# Altium schematic symbol library OpenBMS_schlib.SchLib: 31 symbols
Pins are listed as number, name and electrical type; pins without a type are passive.

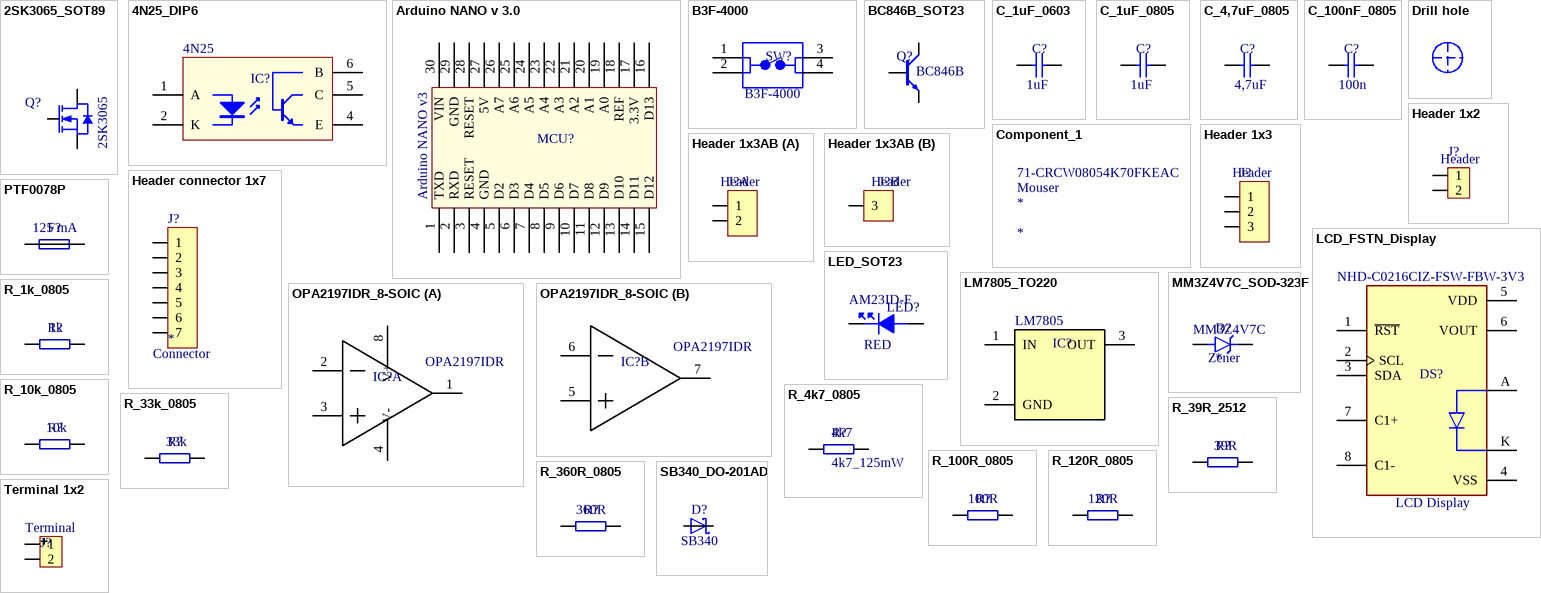
[diagram p0: symbols 2SK3065_SOT89 to Terminal 1x2]

## 2SK3065_SOT89
designator Q?  Name: 2SK3065  (hidden comment: *)
N Channel MOSFET [SMD]; Manufacturer_Part_Number: 2SK3065T100; Manufacturer: Rohm; Vendor: ROHM Semiconductor; Built_By: EMA_Matt; SourceLibrary: Rohm_2019-09-23; Type: DEV; Continuous Drain Current (ID): 2A; Drain to Source Breakdown Voltage: 60V; Drain to Source Resistance: 350mR; Element Configuration: Single; Fall Time: 70ns; Gate to Source Voltage (Vgs): 20V; Input Capacitance: 160pF; Max Power Dissipation: 500mW; Nominal Vgs: 800mV; On-State Resistance: 450mR; Power Dissipation: 2W; Rds On Max: 320mR; Rise Time: 50ns; Turn-Off Delay Time: 120ns; Turn-On Delay Time: 20ns; Copyright: Copyright (C) 2018 Accelerated Designs. All rights reserved; RefDes: RefDes; Value: Value; ComponentLink1Description: DATASHEET; ComponentLink1URL: https://hr.mouser.com/datasheet/2/348/rohm_semiconductor_rohms30086-1-1742632.pdf; ComponentLink2Description: BUY; ComponentLink2URL: https://hr.mouser.com/ProductDetail/ROHM-Semiconductor/2SK3065T100?qs=4kLU8WoGk0uDb4MT5MWZbg%3D%3D; Supplier 1: Mouser; Supplier Part Number 1: 755-2SK3065T100; Case/Package: SOT-89; Current Rating: 2A; Drain to Source Voltage (Vdss): 60V; Lead Free: Lead Free; Max Operating Temperature: 150°C; Min Operating Temperature: -55°C; Mount: Surface Mount; Number of Pins: 3; Package Quantity: 1000; Packaging: Tape and Reel; Radiation Hardening: No; REACH SVHC: No SVHC; RoHS Compliant: Yes; Threshold Voltage: 800mV; Voltage Rating (DC): 60V; Supplier Packaging 1: Tape & Reel; Supplier Unit Price 1: $0.68; Supplier Location 1: US; Manufacturer Part Number: 2SK3065T100
footprint N_MOSFET
pins: 1 G, 2 D, 3 S

## 4N25_DIP6
designator IC?  Manufacturer Part Number: 4N25  (hidden comment: *)
Optocoupler [TH]; Manufacturer: Vishay Semiconductors; Max Power Dissipation: 150mW; Number of Elements: 1; Collector Emitter Voltage (VCEO): 30V; Rise Time: 2s; Isolation Voltage: 5kV; Forward Voltage: 1.5V; Forward Current: 60mA; Collector Emitter Saturation Voltage: 500mV; Reverse Breakdown Voltage: 5V; Output Voltage: 70V; Output Current per Channel: 50mA; Max Collector Current: 100mA; Current Transfer Ratio: 50%; Approvals: UL; RoHS: Yes; Mount: Through Hole; Case/Package: DIP-6; Number of Pins: 6; Contact Plating: Tin; Min Operating Temperature: -55°C; Max Operating Temperature: 100°C; Packaging: Rail/Tube; Package Quantity: 2000; Power Dissipation: 150mW; Number of Channels: 1; Max Input Current: 60mA; Max Output Voltage: 30V; Fall Time: 2s; Input Current: 50mA; Collector Emitter Breakdown Voltage: 30V; Radiation Hardening: No; Lead Free: Lead Free; REACH SVHC: Unknown; ComponentLink1Description: DATASHEET; ComponentLink1URL: https://hr.mouser.com/datasheet/2/427/VISHS81804_1-2566401.pdf; ComponentLink3Description: BUY; ComponentLink3URL: https://hr.mouser.com/ProductDetail/Vishay-Semiconductors/4N25?qs=8Ee2Dc0%2F0IdkAlKrFkNMCA%3D%3D; Supplier 1: Mouser; Supplier Part Number 1: 78-4N25
footprint DIP6
pins: 1 A, 2 K, 4 E, 5 C, 6 B

## Arduino NANO v 3.0
designator MCU?  Name: Arduino NANO v3  (hidden comment: *)
Microcontroller [TH]; Manufacturer Part Number: A000005; Manufacturer: Arduino; Core Architecture: AVR; Data Bus Width: 8b; Evaluation Kit: Yes; Number of Bits: 8; Operating Supply Voltage: 20V; Interface: I2C,SPI,USB; ComponentLink1Description: OFFICIAL PAGE; ComponentLink1URL: https://store.arduino.cc/arduino-nano; Height: 0.25inch; Length: 7inch; Package Quantity: 1; Packaging: Bulk; REACH SVHC: No SVHC; Weight: 0.02lb; Width: 5inch; ComponentLink2Description: BUY; ComponentLink2URL: https://www.mouser.com/ProductDetail/Arduino/A000005?qs=FN83AlR%252Bkj%252B2HN65G4WOuA%3D%3D; Supplier 1: Mouser; Supplier Part Number 1: 782-A000005
footprint Arduino_Nano_V3.0
pins: 1 TXD, 2 RXD, 3 RESET, 4 GND, 5 D2, 6 D3, 7 D4, 8 D5, 9 D6, 10 D7, 11 D8, 12 D9, 13 D10, 14 D11, 15 D12, 16 D13, 17 3.3V, 18 REF, 19 A0, 20 A1, 21 A2, 22 A3, 23 A4, 24 A5, 25 A6, 26 A7, 27 5V, 28 RESET, 29 GND, 30 VIN

## B3F-4000
designator SW?  Name: B3F-4000  (hidden comment: *)
SPST Push button [TH]; Manufacturer: Omron; MF: TE Connectivity; MP: 3-1825910-1; Actuator Color: Blue; Actuator Length: 0.8mm; Actuator Type: Standard; Contact Current Rating: 50mA; Contact Resistance: 100mR; Electrical Life: 3000000Cycles; Illumination Type: Non-Illuminated,Illuminated; Max Voltage Rating (DC): 24V; Number of Poles: 1; Operating Force: 1.27N; Switch Function: Off-Mom; Switch Travel: 0.3mm; Availability: Unavailable; SnapEDA_Link: https://www.snapeda.com/parts/3-1825910-1/TE%20Connectivity%20ALCOSWITCH%20Switches/view-part/452461/?ref=snap; Price: None; EU_RoHS_Compliance: Compliant; Package: None; TE_purchase_URL: https://www.te.com/usa-en/product-3-1825910-1.html?te_bu=Cor&te_type=disp&te_campaign=seda_glo_cor-seda-global-disp-prtnr-fy19-seda-model-bom-cta_sma-317_1&elqCampaignId=32493; Value: *; ComponentLink1Description: DATASHEET; ComponentLink1URL: https://hr.mouser.com/datasheet/2/307/en-b3f-13826.pdf; ComponentLink2Description: BUY; ComponentLink2URL: https://hr.mouser.com/ProductDetail/Omron-Electronics/B3F-4000?qs=sGAEpiMZZMv0NwlthflBi3MjD%252BFGR0mw; Supplier 1: Mouser; Supplier Part Number 1: 653-B3F-4000; Contact Material: Gold,Silver; Contact Plating: Silver,Gold; Contact Type: 1 maker; Current Rating: 50mA; Depth: 12mm; Height: 4.3mm; Insulation Resistance: 100MR; Lead Free: Lead Free; Length: 12mm; Max Current Rating: 50mA; Max Operating Temperature: 70°C; Mechanical Life: 3000000Cycles; Min Operating Temperature: -25°C; Mount: Through Hole,PCB; Orientation: Straight; Package Quantity: 500; Packaging: Bulk; REACH SVHC: Unknown; RoHS Compliant: Yes; Series: B3F; Termination: PC Pins; Throw Configuration: SPST; Voltage Rating (DC): 24V; Weight: 0.85g; Width: 12mm; Supplier Packaging 1: Bulk; Supplier Unit Price 1: $0.54; Supplier Location 1: US; Manufacturer Part Number: B3F-4000
footprint PUSH_BUTTON
pins: 1, 2, 3, 4

## BC846B_SOT23
designator Q?  Name: BC846B  (hidden comment: *)
NPN transistor [SMD]; Manufacturer Part Number: BC846ALT1G; Manufacturer: ON Semiconductor; Collector Base Voltage (VCBO): 80V; Collector Emitter Breakdown Voltage: 65V; Collector Emitter Saturation Voltage: 600mV; Current Rating: 100mA; Element Configuration: Single; Emitter Base Voltage (VEBO): 6V; Frequency: 100MHz; hFE Min: 110; Max Power Dissipation: 300mW; Number of Elements: 1; ComponentLink1Description: DATASHEET; ComponentLink1URL: https://hr.mouser.com/datasheet/2/308/1/BC846ALT1_D-2310268.pdf; ComponentLink2Description: BUY; ComponentLink2URL: https://hr.mouser.com/ProductDetail/onsemi/BC846ALT1G?qs=vNc2DXHODiKaYXYnVvJi5w%3D%3D; Case/Package: SOT-23; Collector Emitter Voltage (VCEO): 65V; Collector-emitter Voltage-Max: 600mV; Contact Plating: Tin,Matte; Gain Bandwidth Product: 100MHz; Halogen Free: Halogen Free; Height: 0.94mm; Lead Free: Lead Free; Length: 2.9mm; Max Breakdown Voltage: 65V; Max Collector Current: 100mA; Max Frequency: 100MHz; Max Operating Temperature: 150°C; Min Operating Temperature: -55°C; Number of Pins: 3; Package Quantity: 1; Packaging: Tape and Reel; Polarity: NPN; Power Dissipation: 300mW; Radiation Hardening: No; REACH SVHC: No SVHC; RoHS Compliant: Yes; Series: BC846AL; Transition Frequency: 100MHz; Voltage Rating (DC): 65V; Width: 1.3mm; Supplier 1: Mouser; Supplier Part Number 1: 863-BC846ALT1G
footprint NPN_BJT_SOT23
pins: 1 C, 2 B, 3 E

## C_1uF_0603
designator C?, comment Name: 1uF  (hidden comment: 1uF_35V)
Capacitor [SMD]; Manufacturer: Murata; Manufacturer Part Number: GRT188R61H105KE13D; Dielectric: X5R; Tolerance: 10%; Voltage Rating: 50V; ComponentLink1Description: DATASHEET; ComponentLink1URL: https://hr.mouser.com/datasheet/2/281/1/GRT188R61H105KE13_01-1989463.pdf; ComponentLink2Description: BUY; ComponentLink2URL: https://hr.mouser.com/ProductDetail/Murata-Electronics/GRT188R61H105KE13D?qs=drgMNd%252BkGPNIxxtJByMGCg%3D%3D; Capacitance: 1uF; Case Code (Imperial): 0603; Case Code (Metric): 1608; Case/Package: 0603; Length: 0.063inch; Max Operating Temperature: 85°C; Min Operating Temperature: -55°C; Mount: Surface Mount; Packaging: Tape and Reel; Ratings: AEC-Q200; RoHS Compliant: Yes; Thickness: 0.035inch; Voltage Rating (DC): 50V; Width: 0.031inch; Supplier 1: Mouser; Supplier Part Number 1: 81-GRT188R61H105KE3D
footprint C_0603
pins: 1, 2

## C_1uF_0805
designator C?, comment Name: 1uF  (hidden comment: 1uF_35V)
Capacitor [SMD]; Manufacturer: Murata; Manufacturer Part Number: GCJ21BR71H105KA01L; Dielectric: X7R; Tolerance: 10%; Voltage Rating: 50V; ComponentLink1Description: DATASHEET; ComponentLink1URL: https://hr.mouser.com/datasheet/2/281/GCJ21BR71H105KA01_01-1963894.pdf; ComponentLink2Description: BUY; ComponentLink2URL: https://hr.mouser.com/ProductDetail/Murata-Electronics/GCJ21BR71H105KA01L?qs=hNud%2FORuBR3CJcLH9kX5%252Bw%3D%3D; Supplier 1: Mouser; Supplier Part Number 1: 81-GCJ21BR71H105KA1L; Capacitance: 1uF; Case Code (Imperial): 0805; Case Code (Metric): 2012; Case/Package: 0805; Features: Soft Termination; Height: 1.25mm; Lead Free: Lead Free; Length: 0.079inch; Max Operating Temperature: 125°C; Min Operating Temperature: -55°C; Mount: Surface Mount; Package Quantity: 3000; Packaging: Tape and Reel; Ratings: AEC-Q200; RoHS Compliant: Yes; Termination: SMD/SMT; Thickness: 0.057inch; Voltage Rating (DC): 50V; Weight: 0.000335oz; Width: 0.049inch; Supplier Packaging 1: Tape & Reel; Supplier Unit Price 1: $0.32; Supplier Location 1: US
footprint C_0805
pins: 1, 2

## C_4,7uF_0805
designator C?, comment Name: 4,7uF  (hidden comment: 4,7uF_35V)
Capacitor [SMD]; Manufacturer: Murata; Manufacturer Part Number: GRM21BR61H475KE51L; Capacitance: 4.7uF; Dielectric: X5R; Material: Ceramic; Tolerance: 10%; Voltage Rating: 50V; ComponentLink1Description: DATASHEET; ComponentLink1URL: https://hr.mouser.com/datasheet/2/281/1/GRM21BR61H475KE51_01A-1987025.pdf; ComponentLink2Description: BUY; ComponentLink2URL: https://hr.mouser.com/ProductDetail/Murata-Electronics/GRM21BR61H475KE51L?qs=eeBpzGFlv%252B%252BOtLzDC1PY6Q%3D%3D; Supplier 1: Mouser; Supplier Part Number 1: 81-GRM21BR61H475KE1L; Case Code (Imperial): 0805; Case Code (Metric): 2012; Case/Package: 0805; Depth: 1.25mm; Height: 1.25mm; Lead Free: Lead Free; Length: 2mm; Max Operating Temperature: 85°C; Min Operating Temperature: -55°C; Mount: Surface Mount; Packaging: Tape and Reel; REACH SVHC: No SVHC; RoHS Compliant: Yes; Thickness: 0.055inch; Voltage Rating (DC): 50V; Width: 0.049inch; Supplier Packaging 1: Tape & Reel; Supplier Unit Price 1: $0.35; Supplier Location 1: US
footprint C_0805
pins: 1, 2

## C_100nF_0805
designator C?, comment Name: 100n  (hidden comment: 100nF_35V)
Capacitor [SMD]; Manufacturer: Murata; Manufacturer Part Number: GCJ21BL81H104KA01L; Capacitance: 100nF; Tolerance: 10%; Voltage Rating: 50V; ComponentLink1Description: DATASHEET; ComponentLink1URL: https://hr.mouser.com/datasheet/2/281/GCJ21BL81H104KA01_01-1963909.pdf; ComponentLink2Description: BUY; ComponentLink2URL: https://hr.mouser.com/ProductDetail/Murata-Electronics/GCJ21BL81H104KA01L?qs=QzBtWTOodeX5ICEuC%252Bh33g%3D%3D; Supplier 1: Mouser; Supplier Part Number 1: 81-GCJ21BL81H104KA1L; Case Code (Imperial): 0805; Case Code (Metric): 2012; Case/Package: 0805; Features: Soft Termination; Max Operating Temperature: 150°C; Min Operating Temperature: -55°C; Mount: Surface Mount; Packaging: Tape and Reel; Ratings: AEC-Q200; RoHS Compliant: Yes; Supplier Packaging 1: Tape & Reel; Supplier Unit Price 1: $0.30; Supplier Location 1: US
footprint C_0805
pins: 1, 2

## Component_1
designator *  Supplier 1: Mouser  Supplier Part Number 1: 71-CRCW08054K70FKEAC

## Drill hole
designator H?  (value not drawn)  (no BOM)
Mounting Hole d = 3.2mm; Circumference diameter: 4.4 mm; Circumference line width: 0.5 mm; Hole diameter: 3.2 mm
footprint Mount_Hole (Mounting Hole M2)

## Header 1x2
designator J?, comment Name: Header  (hidden comment: 2.54mm pitch)
Header, 2-Pin [TH]; Manufacturer: Molex; Current Rating: 4A; Gender: Male; Glow Wire Compliant: Non-compliant; Number of Circuits: 15; Pitch: 0.1inch; Voltage Rating: 250V; Connector Type: Male Pin; LatestRevisionDate: 17-Jul-2002; LatestRevisionNote: Re-released for DXP Platform.; Publisher: Altium Limited; ComponentLink1Description: DATASHEET; ComponentLink1URL: https://hr.mouser.com/datasheet/2/276/0022284150_PCB_HEADERS-159054.pdf; ComponentLink2Description: BUY; ComponentLink2URL: https://hr.mouser.com/ProductDetail/Molex/22-28-4150?qs=M5Ic86%252BuP8aClMFgmZrq7g%3D%3D; Supplier 1: Mouser; Supplier Part Number 1: 538-22-28-4150; Color: Black; Contact Material: Brass; Contact Mating Length: 0.24inch; Contact Plating: Tin; Contact Type: Male Pin; Flammability Rating: UL94 V-0; Height: 2.29mm; Housing Color: Black; Housing Material: Thermoplastic; Lead Free: Contains Lead; Length: 38.1mm; Mount: Through Hole; Number of Contacts: 15; Number of Positions: 15; Number of Rows: 1; Orientation: Vertical; Package Quantity: 1; Packaging: Bulk; RoHS Compliant: Yes; Series: KK® 42375; Termination: Solder; Voltage Rating (DC): 250V; Width: 2.49mm; Supplier Packaging 1: Bulk; Supplier Unit Price 1: $0.57; Supplier Location 1: US; Manufacturer Part Number: 22-28-4150
footprint HDR_1x2_2.54mm-MALE
pins: 1, 2

## Header 1x3
designator J?, comment Name: Header  (hidden comment: 2.54mm pitch)
Header, 3-Pin [TH]; Manufacturer: Molex; Connector Type: Male Pin; Current Rating: 4A; Gender: Male; Glow Wire Compliant: Non-compliant; Number of Circuits: 15; Pitch: 0.1inch; Voltage Rating: 250V; LatestRevisionDate: 17-Jul-2002; LatestRevisionNote: Re-released for DXP Platform.; Publisher: Altium Limited; ComponentLink1Description: DATASHEET; ComponentLink1URL: https://hr.mouser.com/datasheet/2/276/0022284150_PCB_HEADERS-159054.pdf; ComponentLink2Description: BUY; ComponentLink2URL: https://hr.mouser.com/ProductDetail/Molex/22-28-4150?qs=M5Ic86%252BuP8aClMFgmZrq7g%3D%3D; Supplier 1: Mouser; Supplier Part Number 1: 538-22-28-4150; Color: Black; Contact Material: Brass; Contact Mating Length: 0.24inch; Contact Plating: Tin; Contact Type: Male Pin; Flammability Rating: UL94 V-0; Height: 2.29mm; Housing Color: Black; Housing Material: Thermoplastic; Lead Free: Contains Lead; Length: 38.1mm; Mount: Through Hole; Number of Contacts: 15; Number of Positions: 15; Number of Rows: 1; Orientation: Vertical; Package Quantity: 1; Packaging: Bulk; RoHS Compliant: Yes; Series: KK® 42375; Termination: Solder; Voltage Rating (DC): 250V; Width: 2.49mm; Supplier Packaging 1: Bulk; Supplier Unit Price 1: $0.57; Supplier Location 1: US; Manufacturer Part Number: 22-28-4150
footprint HDR_1X3_2.54mm-MALE (Connector; Header; 3 Position)
pins: 1, 2, 3

## Header 1x3AB
designator J?, comment Name: Header  (hidden comment: 2.54mm pitch)
Header, 3-Pin [TH]; Manufacturer: Molex; Connector Type: Male Pin; Current Rating: 4A; Gender: Male; Glow Wire Compliant: Non-compliant; Number of Circuits: 15; Pitch: 0.1inch; Voltage Rating: 250V; LatestRevisionDate: 17-Jul-2002; LatestRevisionNote: Re-released for DXP Platform.; Publisher: Altium Limited; ComponentLink1Description: DATASHEET; ComponentLink1URL: https://hr.mouser.com/datasheet/2/276/0022284150_PCB_HEADERS-159054.pdf; ComponentLink2Description: BUY; ComponentLink2URL: https://hr.mouser.com/ProductDetail/Molex/22-28-4150?qs=M5Ic86%252BuP8aClMFgmZrq7g%3D%3D; Supplier 1: Mouser; Supplier Part Number 1: 538-22-28-4150; Color: Black; Contact Material: Brass; Contact Mating Length: 0.24inch; Contact Plating: Tin; Contact Type: Male Pin; Flammability Rating: UL94 V-0; Height: 2.29mm; Housing Color: Black; Housing Material: Thermoplastic; Lead Free: Contains Lead; Length: 38.1mm; Mount: Through Hole; Number of Contacts: 15; Number of Positions: 15; Number of Rows: 1; Orientation: Vertical; Package Quantity: 1; Packaging: Bulk; RoHS Compliant: Yes; Series: KK® 42375; Termination: Solder; Voltage Rating (DC): 250V; Width: 2.49mm; Supplier Packaging 1: Bulk; Supplier Unit Price 1: $0.57; Supplier Location 1: US; Manufacturer Part Number: 22-28-4150
footprint HDR_1X3_2.54mm-MALE (Connector; Header; 3 Position)
part A pins: 1, 2
part B pins: 3

## Header connector 1x7
designator J?  Name: Connector
Header, 7-Pin [TH]; Manufacturer: Molex; Manufacturer Part Number: 70543-0006; Contact Resistance: 30mR; Current Rating: 3A; Gender: Male; Glow Wire Compliant: Non-compliant; Number of Circuits: 7; Pitch: 2.54mm; Voltage Rating: 250V; LatestRevisionDate: 17-Jul-2002; LatestRevisionNote: Re-released for DXP Platform.; Publisher: Altium Limited; ComponentLink1Description: Male_DATASHEET; ComponentLink1URL: https://hr.mouser.com/datasheet/2/276/1/0705430006_PCB_HEADERS-172671.pdf; ComponentLink2Description: Male_BUY; ComponentLink2URL: https://hr.mouser.com/ProductDetail/Molex/70543-0006?qs=tYx%252BZc2nXqqLGOznLgFBUw%3D%3D; ComponentLink3Description: Female_DATASHEET; ComponentLink3URL: https://hr.mouser.com/datasheet/2/276/0014600072_RB_CBL_WR_TRP_CONN-157136.pdf; ComponentLink4Description: Female_BUY; ComponentLink4URL: https://hr.mouser.com/ProductDetail/Molex/14-60-0072?qs=NB3s7TNnM%252BbcvQdqxWlaYA%3D%3D; Supplier 1: Mouser; Supplier Part Number 1: 538-70543-0006; Color: Black; Contact Material: Bronze,Copper Alloy; Contact Plating: Gold; ELV: Compliant; Flammability Rating: UL94 V-0; Housing Color: Black; Housing Material: Thermoplastic; Lead Free: Lead Free; Material: Brass; Max Operating Temperature: 105°C; Min Operating Temperature: -40°C; Mount: Through Hole; Number of Contacts: 7; Number of Positions: 7; Number of Rows: 1; Orientation: Vertical; Package Quantity: 1248; Packaging: Rail/Tube; Radiation Hardening: No; REACH SVHC: Unknown; RoHS Compliant: Yes; Series: 70543; Termination: Through Hole; Supplier Packaging 1: Tube; Supplier Unit Price 1: $1.68; Supplier Location 1: US
footprint HDR_1x7_2.54mm-MALE
pins: 1, 2, 3, 4, 5, 6, 7

## LCD_FSTN_Display
designator DS?  MP: NHD-C0216CIZ-FSW-FBW-3V3  Name: LCD Display  (hidden comment: *)
NHD-C0216CIZ-FSW-FBW-3V3 / LCD Display; Manufacturer: Newhaven Display; MF: Newhaven; Background Color: White; Backlight Type: LED; Contrast Ratio: 6:1; Interface: I2C; Number of Characters: 32; Operating Supply Voltage: 3V; SnapEDA_Link: https://www.snapeda.com/parts/NHD-C0216CIZ-FSW-FBW-3V3/Newhaven%20Display%20Intl/view-part/1660867/?ref=snap; Value: *; Digi-Key_Part_Number: NHD-C0216CIZ-FSW-FBW-3V3-ND; Digi-Key_Purchase_URL: https://www.digikey.com/product-detail/en/newhaven-display-intl/NHD-C0216CIZ-FSW-FBW-3V3/NHD-C0216CIZ-FSW-FBW-3V3-ND/2165872?utm_source=snapeda&utm_medium=aggregator&utm_campaign=symbol; Package: None; ComponentLink1Description: DATASHEET; ComponentLink1URL: https://hr.mouser.com/datasheet/2/291/NHD_C0216CiZ_FSW_FBW_3V3-2904729.pdf; ComponentLink2Description: BUY; ComponentLink2URL: https://hr.mouser.com/ProductDetail/Newhaven-Display/NHD-C0216CiZ-FSW-FBW-3V3?qs=Vb5qD4CGh4kMzks2c1g3mA%3D%3D; Supplier 1: Mouser; Supplier Part Number 1: 763-C0216CIZFSWFBW3V; Max Operating Temperature: 70°C; Min Operating Temperature: -20°C; Mount: Through Hole; Number of Pins: 8; Package Quantity: 100; Packaging: Bulk; Supplier Packaging 1: Bulk; Supplier Unit Price 1: $16.00; Supplier Location 1: US; Manufacturer Part Number: NHD-C0216CIZ-FSW-FBW-3V3
footprint LCD_NHD-C0216CIZ-FSW-FBW-3V3
pins: 1 ~{RST}, 2 SCL, 3 SDA, 4 VSS (power), 5 VDD (power), 6 VOUT, 7 C1+, 8 C1-, A, K

## LED_SOT23
designator LED?  Manufacturer Part Number: AM23ID-F  Name: RED  (hidden comment: *)
Red LED [SMD]; Manufacturer: Kingbright; Dominant Wavelength: 617nm; Forward Current: 20mA; Forward Voltage: 2V; Lens Style: Diffused,Tinted; Lens Transparency: Diffused; Luminous Intensity: 7mcd; Power Rating: 75mW; Viewing Angle: 140°; Wavelength: 625nm; ComponentLink1Description: DATASHEET; ComponentLink1URL: https://hr.mouser.com/datasheet/2/216/AM23ID-F-33364.pdf; ComponentLink2Description: BUY; ComponentLink2URL: https://hr.mouser.com/ProductDetail/Kingbright/AM23ID-F?qs=y3UkhjaxUTbVf8YFp%2FiekA%3D%3D; Supplier 1: Mouser; Supplier Part Number 1: 604-AM23ID-F; Case/Package: SOT-23; Color: Red; Height: 1.2mm; Illumination Color: Red; Lead Free: Lead Free; Length: 3mm; Lens Color: Red; Max Operating Temperature: 85°C; Min Operating Temperature: -40°C; Mount: Surface Mount; Package Quantity: 2000; Packaging: Tape and Reel; RoHS Compliant: Yes; Series: -; Test Current: 20mA; Width: 1.3mm; Supplier Packaging 1: Tape & Reel; Supplier Unit Price 1: $0.50; Supplier Location 1: US
footprint LED_SOT23
pins: 1 A, 3 K

## LM7805_TO220
designator IC?  Name: LM7805  (hidden comment: *)
Linear Voltage Regulator 5V [TH] with thermal pad mounted to Fischer elektronik SK09 - 20mm heatsink with a screw and nut; Manufacturer: STMicroelectronics; Manufacturer Part Number: L7805C-V; MP: LM7805CT; MF: ON Semiconductor; Dropout Voltage: 2V; Max Input Voltage: 35V; Max Output Current: 1.5A; Min Input Voltage: 7V; Number of Outputs: 1; Output Configuration: Positive; Output Type: Fixed; Power Supply Rejection Ratio (PSRR): 62dB; Quiescent Current: 8mA; Tolerance: 5%; SnapEDA_Link: https://www.snapeda.com/parts/LM7805CT/ON%20Semiconductor/view-part/546231/?ref=snap; Price: None; Package: TO-220 ON Semiconductor; Value: *; Availability: Unavailable; ComponentLink1Description: Rregulator_DATASHEET; ComponentLink1URL: https://hr.mouser.com/datasheet/2/389/cd00000444-1795274.pdf; ComponentLink2Description: Regulator_BUY; ComponentLink2URL: https://hr.mouser.com/ProductDetail/STMicroelectronics/L7805CV?qs=9NrABl3fj%2FqplZAHiYUxWg%3D%3D; Supplier 1: Mouser; Supplier Part Number 1: 511-L7805CV; Case/Package: TO-220; Contact Plating: Gold; Height: 9.15mm; Lead Free: Lead Free; Length: 10.4mm; Max Operating Temperature: 125°C; Min Operating Temperature: 0°C; Min Output Voltage: 5V; Mount: Through Hole; Nominal Output Voltage: 5V; Number of Pins: 3; Number of Regulators: 1; Output Current: 1.5A; Output Voltage: 5V; Package Quantity: 1000; Packaging: Rail/Tube; Polarity: Positive; Radiation Hardening: No; REACH SVHC: No SVHC; RoHS Compliant: Yes; Series: -; Weight: 0.08113oz; Width: 4.6mm; Supplier Packaging 1: Tube; Supplier Unit Price 1: $0.63; Supplier Location 1: US; ComponentLink3Description: Heatsink_OFFICIAL PAGE; ComponentLink3URL: https://www.fischerelektronik.de/web_fischer/en_GB/heatsinks/A01/Standard%20extruded%20heatsinks/PG/SK09/search.xhtml; ComponentLink4Description: Heatsink_BUY; ComponentLink4URL: https://www.tme.eu/en/details/sk09-20sa220/heatsinks/fischer-elektronik/sk-09-20-sa-to-220/
footprint TO220
pins: 1 IN (power), 2 GND (power), 3 OUT (power)

## MM3Z4V7C_SOD-323F
designator D?  value MM3Z4V7C  Type: Zener
Zener Single Diode, 4.7 V, 200 mW [SMD]; Manufacturer: ON Semiconductor / Fairchild; MP: 1N4148WS; MF: ON Semiconductor; Forward Voltage: 1V; Impedance: 75R; Max Power Dissipation: 200mW; Max Reverse Current: 2.7uA; Test Current: 5mA; Tolerance: 5%; Working Voltage: 4.7V; Price: None; SnapEDA_Link: https://www.snapeda.com/parts/1N4148WS/ON%20Semiconductor/view-part/2747266/?ref=snap; Check_prices: https://www.snapeda.com/parts/1N4148WS/ON%20Semiconductor/view-part/2747266/?ref=eda; Availability: Good; Purchase-URL: https://pricing.snapeda.com/search/part/1N4148WS/?ref=eda; Package: SOD-323FL-2 ON Semiconductor; ComponentLink1Description: DATASHEET; ComponentLink1URL: https://hr.mouser.com/datasheet/2/308/1/MM3Z9V1C_D-2315854.pdf; ComponentLink2Description: BUY; ComponentLink2URL: https://hr.mouser.com/ProductDetail/onsemi-Fairchild/MM3Z4V7C?qs=sGAEpiMZZMtdo5lL%2F%252BX2BwKAOpX0rFyD; Supplier 1: Mouser; Supplier Part Number 1: 512-MM3Z4V7C; Element Configuration: Single; Height: 1mm; Lead Free: Lead Free; Length: 1.3mm; Max Operating Temperature: 150°C; Max Reverse Leakage Current: 2.7uA; Min Operating Temperature: -65°C; Mount: Surface Mount; Number of Pins: 2; Package Quantity: 1; Packaging: Tape and Reel; Power Dissipation: 200mW; Radiation Hardening: No; RoHS Compliant: Yes; Voltage Tolerance: 5%; Weight: 0.0276g; Width: 1.7mm; Zener Voltage: 4.7V; Supplier Packaging 1: Tape & Reel; Supplier Unit Price 1: $0.24; Supplier Location 1: US; Manufacturer Part Number: MM3Z4V7C; Case/Package: SOD−323FL
footprint SODFL2512X90N
pins: A, K

## OPA2197IDR_8-SOIC
designator IC?  Manufacturer_Part_Number: OPA2197IDR  (hidden comment: *)
Dual OP AMP [TH]; Manufacturer_Name: Texas Instruments; Bandwidth: 10MHz; Input Bias Current: 5pA; Input Offset Voltage (Vos): 250uV; Number of Amplifiers: 2; Operating Supply Current: 1mA; Output Current per Channel: 65mA; Slew Rate: 20V/µs; Datasheet Link: https://componentsearchengine.com/Datasheets/2/OPA2197IDR.pdf; Height: 1.75mm; Mouser Part Number: 595-OPA2197IDR; Mouser Price/Stock: https://www.mouser.com/Search/Refine.aspx?Keyword=595-OPA2197IDR; ComponentLink1Description: DATASHEET; ComponentLink1URL: https://www.ti.com/lit/ds/symlink/opa2197.pdf?HQS=dis-mous-null-mousermode-dsf-pf-null-wwe&ts=1646121857740&ref_url=https%253A%252F%252Fwww.mouser.de%252F; ComponentLink2Description: BUY; ComponentLink2URL: https://hr.mouser.com/ProductDetail/Texas-Instruments/OPA2197IDR?qs=LuYMPh7GGMTV7Fo%252BZRgbTw%3D%3D; Supplier 1: Mouser; Supplier Part Number 1: 595-OPA2197IDR; Case/Package: SOIC-8; Gain Bandwidth Product: 10MHz; Lead Free: Lead Free; Max Operating Temperature: 125°C; Min Operating Temperature: -40°C; Mount: Surface Mount; Number of Channels: 2; Number of Circuits: 2; Number of Pins: 8; Packaging: Cut Tape; REACH SVHC: No SVHC; RoHS Compliant: Yes; Supplier Packaging 1: Tape & Reel; Supplier Unit Price 1: $2.72; Supplier Location 1: US; Manufacturer: Texas Instruments; Manufacturer Part Number: OPA2197IDR
footprint SOIC8
part A pins: 1 OUT_A, 2 -IN_A, 3 +IN_A, 4 V-, 8 V+
part B pins: 5 +IN_B, 6 -IN_B, 7 OUT_B

## PTF0078P
designator F?  value 125 mA  (hidden comment: *)
Fuse holder [TH]; Manufacturer: Littelfuse; Manufacturer Part Number: 0PTF0078P; MP: 4527; MF: Keystone; Number of Circuits: 1; Name: Fuse 1A; Price: None; Availability: Unavailable; SnapEDA_Link: https://www.snapeda.com/parts/4527/Keystone%20Electronics/view-part/475964/?ref=snap; Package: None; ComponentLink1Description: DATASHEET; ComponentLink1URL: https://hr.mouser.com/datasheet/2/240/Littelfuse-2891966.pdf; ComponentLink2Description: BUY; ComponentLink2URL: https://hr.mouser.com/ProductDetail/Littelfuse/0PTF0078P?qs=Co4VkB5J4%2Fsczy6gG8s%2FsA%3D%3D; Supplier 1: Mouser; Supplier Part Number 1: 576-0PTF0078P; Mount: PCB; Package Quantity: 2000; Packaging: Bulk; Termination: PC Pin; Supplier Packaging 1: Bulk; Supplier Unit Price 1: $0.59; Supplier Location 1: US
footprint FUSE_5x20
pins: 1, 2

## R_1k_0805
designator R?, comment Name: 1k  (hidden comment: 1k_125mW)
Resistor [SMD]; Manufacturer: Vishay; Manufacturer Part Number: CRCW08051K00FKEAC; Max Power Dissipation: 125mW; Resistance: 1kR; Temperature Coefficient: 100ppm/°C; Tolerance: 1%; Voltage Rating: 150V; ComponentLink1Description: DATASHEET; ComponentLink1URL: https://www.mouser.com/datasheet/2/427/crcwce3-1762584.pdf; ComponentLink2Description: BUY; ComponentLink2URL: https://www.mouser.com/ProductDetail/Vishay-Dale/CRCW08051K00FKEAC?qs=CZ6xfwOSLTXmQIgaYvN%2FBA%3D%3D; Case Code (Imperial): 0805; Case Code (Metric): 2012; Case/Package: 0805; Contact Plating: Tin; Features: Automotive AEC-Q200,Anti-Sulfur; Height: 0.02inch; Length: 2mm; Max Operating Temperature: 155°C; Min Operating Temperature: -55°C; Number of Terminations: 2; Package Quantity: 5000; Packaging: Tape and Reel; Power Rating: 125mW; Radiation Hardening: No; Resistor Type: Thick Film; RoHS Compliant: Yes; Series: RCA; Termination: Wraparound; Width: 0.049inch; Supplier Packaging 1: Tape & Reel; Supplier Unit Price 1: $0.12; Supplier Location 1: US; Lead Free: Lead Free; Mount: Surface Mount; Supplier 1: Mouser; Supplier Part Number 1: 71-CRCW08051K00FKEAC
footprint R_0805
pins: 1, 2

## R_4k7_0805
designator R?, comment 4k7_125mW  Name: 4k7
Resistor [SMD]; Manufacturer: Vishay; Manufacturer Part Number: CRCW08054K70FKEAC; Power Rating: 125mW; Resistance: 4.7kR; Temperature Coefficient: 100ppm/°C; Tolerance: 1%; ComponentLink1Description: DATASHEET; ComponentLink1URL: https://www.mouser.com/datasheet/2/427/crcwce3-1762584.pdf; ComponentLink2Description: BUY; ComponentLink2URL: https://www.mouser.com/ProductDetail/Vishay-Dale/CRCW08054K70FKEAC?qs=E3Y5ESvWgWOQAAVugewEHA%3D%3D; Case/Package: 0805; Contact Plating: Tin; Lead Free: Lead Free; Length: 2mm; Max Operating Temperature: 155°C; Min Operating Temperature: -55°C; Mount: Surface Mount; Resistor Type: Thick Film; RoHS Compliant: Yes; Termination: Wraparound; Supplier 1: Mouser; Supplier Part Number 1: 71-CRCW08054K70FKEAC
footprint R_0805
pins: 1, 2

## R_10k_0805
designator R?, comment Name: 10k  (hidden comment: 10k_125mW)
Resistor [SMD]; Manufacturer: Vishay; Manufacturer Part Number: CRCW080510K0FKEAC; Power Rating: 125mW; Resistance: 10000R; Tolerance: 1%; ComponentLink1Description: DATASHEET; ComponentLink1URL: https://hr.mouser.com/datasheet/2/427/crcwce3-1762584.pdf; ComponentLink2Description: BUY; ComponentLink2URL: https://hr.mouser.com/ProductDetail/Vishay-Dale/CRCW080510K0FKEAC?qs=E3Y5ESvWgWORadmUijPtxQ%3D%3D; Supplier 1: Mouser; Supplier Part Number 1: 71-CRCW080510K0FKEAC; Case/Package: 0805; Lead Free: Lead Free; RoHS Compliant: Yes; Supplier Packaging 1: Tape & Reel; Supplier Unit Price 1: $0.10; Supplier Location 1: US
footprint R_0805
pins: 1, 2

## R_33k_0805
designator R?, comment Name: 33k  (hidden comment: 33k_125mW)
Resistor [SMD]; Manufacturer: Vishay Dale; Manufacturer Part Number: CRCW080533K0FKEBC; Max Power Dissipation: 125mW; Resistance: 33kR; Temperature Coefficient: 100ppm/°C; Tolerance: 1%; ComponentLink1Description: DATASHEET; ComponentLink1URL: https://hr.mouser.com/datasheet/2/427/crcwce3-1762584.pdf; ComponentLink2Description: BUY; ComponentLink2URL: https://hr.mouser.com/ProductDetail/Vishay-Dale/CRCW080533K0FKEBC?qs=wd5RIQLrsJg6GD4hLX9MMA%3D%3D; Supplier 1: Mouser; Supplier Part Number 1: 71-CRCW080533K0FKEBC; Case/Package: 0805; Max Operating Temperature: 155°C; Min Operating Temperature: -55°C; Number of Terminations: 2; Packaging: Tape and Reel; Resistor Type: Thick Film; RoHS Compliant: Yes; Supplier Packaging 1: Tape & Reel; Supplier Unit Price 1: $0.16; Supplier Location 1: US
footprint R_0805
pins: 1, 2

## R_39R_2512
designator R?, comment Name: 39R  (hidden comment: 39R_2W)
Resistor [SMD]; Manufacturer: TE Connectivity; Manufacturer Part Number: CRGP2512F39R; Max Power Dissipation: 2W; Temperature Coefficient: 200ppm/°C; Tolerance: 1%; ComponentLink1Description: DATASHEET; ComponentLink1URL: https://hr.mouser.com/datasheet/2/418/8/ENG_DS_9_1773463_9_B-1358566.pdf; ComponentLink2Description: BUY; ComponentLink2URL: https://hr.mouser.com/ProductDetail/TE-Connectivity-Holsworthy/CRGP2512F39R?qs=sGAEpiMZZMtlubZbdhIBIOInyB5Ysv8sHnBniE7kULc%3D; Supplier 1: Mouser; Supplier Part Number 1: 279-CRGP2512F39R; Case/Package: 2512; Max Operating Temperature: 155°C; Min Operating Temperature: -55°C; Number of Terminations: 2; Packaging: Cut Tape; Resistance: 39R; Resistor Type: Thick Film; RoHS Compliant: Yes; Supplier Unit Price 1: $0.57; Supplier Location 1: US
footprint R_2512
pins: 1, 2

## R_100R_0805
designator R?, comment Name: 100R  (hidden comment: 100R_500mW)
Resistor [SMD]; Manufacturer: Vishay Dale; Manufacturer Part Number: CRCW0805100RFKEAHP; Max Power Dissipation: 500mW; Power Rating: 330mW; Resistance Tolerance: 1%; Temperature Coefficient: 100ppm/°C; Voltage Rating: 150V; ComponentLink1Description: DATASHEET; ComponentLink1URL: https://hr.mouser.com/datasheet/2/427/crcwhpe3-1713858.pdf; ComponentLink2Description: BUY; ComponentLink2URL: https://hr.mouser.com/ProductDetail/Vishay-Dale/CRCW0805100RFKEAHP?qs=sGAEpiMZZMtlubZbdhIBIB2QTI7Ai3WqiihO7cZ%2FwYw%3D; Supplier 1: Mouser; Supplier Part Number 1: 71-CRCW0805100RFKEAH; Case Code (Imperial): 0805; Case Code (Metric): 2012; Case/Package: 0805; Construction: Rectangular; Contact Plating: Tin; Depth: 1.25mm; Features: Automotive AEC-Q200; Height: 0.5mm; Lead Free: Lead Free; Length: 2mm; Max Operating Temperature: 155°C; Military Standard: Not; Min Operating Temperature: -55°C; Mount: Surface Mount; Number of Terminations: 2; Package Quantity: 5000; Packaging: Tape and Reel; Radiation Hardening: No; REACH SVHC: Unknown; Resistance: 100R; Resistor Type: Thick Film; RoHS Compliant: Yes; Series: CRCW-HP; Technology: THICK FILM; Termination: SMD/SMT; Tolerance: 1%; Voltage Rating (DC): 150V; Weight: 0.000194oz; Width: 1.2mm
footprint R_0805
pins: 1, 2

## R_120R_0805
designator R?, comment Name: 120R  (hidden comment: 120R_125mW)
Resistor [SMD]; Manufacturer: Vishay; Manufacturer Part Number: CRCW0805120RFKEAC; Max Power Dissipation: 125mW; Temperature Coefficient: 100ppm/°C; Tolerance: 1%; ComponentLink1Description: DATASHEET; ComponentLink1URL: https://hr.mouser.com/datasheet/2/427/crcwce3-1762584.pdf; ComponentLink2Description: BUY; ComponentLink2URL: https://hr.mouser.com/ProductDetail/Vishay-Dale/CRCW0805120RFKEAC?qs=sGAEpiMZZMtlubZbdhIBIIZe04wfiaJWafdARitYaZA%3D; Supplier 1: Mouser; Supplier Part Number 1: 71-CRCW0805120RFKEAC; Case/Package: 0805; Max Operating Temperature: 155°C; Min Operating Temperature: -55°C; Number of Terminations: 2; Packaging: Tape and Reel; Resistance: 120R; Resistor Type: Thick Film; RoHS Compliant: Yes; Supplier Packaging 1: Tape & Reel; Supplier Unit Price 1: $0.12; Supplier Location 1: US
footprint R_0805
pins: 1, 2

## R_360R_0805
designator R?, comment Name: 360R  (hidden comment: 360R_125mW)
Resistor [SMD]; Manufacturer: Vishay; Manufacturer Part Number: CRCW0805360RFKEA; Max Power Dissipation: 125mW; Number of Terminals/Pins: 2; Temperature Coefficient: 100ppm/°C; Tolerance: 1%; Voltage Rating: 150V; ComponentLink1Description: DATASHEET; ComponentLink1URL: https://hr.mouser.com/datasheet/2/427/dcrcwe3-1762152.pdf; ComponentLink2Description: BUY; ComponentLink2URL: https://hr.mouser.com/ProductDetail/Vishay-Dale/CRCW0805360RFKEA?qs=ofC1ORbyWJdnf1jRDhIDIw%3D%3D; Supplier 1: Mouser; Supplier Part Number 1: 71-CRCW0805360RFKEA; Case Code (Imperial): 0805; Case Code (Metric): 2012; Case/Package: 0805; Contact Plating: Tin; Depth: 1.25mm; Features: Automotive AEC-Q200; Height: 0.45mm; Lead Free: Lead Free; Length: 2mm; Max Operating Temperature: 155°C; Military Standard: Not; Min Operating Temperature: -55°C; Number of Pins: 2; Number of Terminations: 2; Package Quantity: 5000; Packaging: Cut Tape; Power Rating: 125mW; Radiation Hardening: No; REACH SVHC: Unknown; Resistance: 360R; Resistor Type: Thick Film; RoHS Compliant: Yes; Series: D/CRCW E3; Technology: THICK FILM; Termination: SMD/SMT; Voltage Rating (DC): 150V; Weight: 0.000194oz; Width: 1.25mm; Supplier Packaging 1: Tape & Reel; Supplier Unit Price 1: $0.12; Supplier Location 1: US
footprint R_0805
pins: 1, 2

## SB340_DO-201AD
designator D?  Name: SB340  (hidden comment: *)
Diode Schottky 40V 3A [TH]; Manufacturer: Vishay Semiconductors; Manufacturer Part Number: SB340-E3/54; MP: 1N5822; Value: SB340; MF: ON Semiconductor; Element Configuration: Single; Forward Voltage: 490mV; Max Forward Surge Current (Ifsm): 120A; Max Reverse Current: 500uA; Package: DO-201AD-201 Panjit; SnapEDA_Link: https://www.snapeda.com/parts/1N5822/ON%20Semiconductor/view-part/1356736/?ref=snap; Price: None; Availability: Unavailable; ComponentLink1Description: DATASHEET; ComponentLink1URL: https://hr.mouser.com/datasheet/2/427/VISH_S_A0001809294_1-2567748.pdf; ComponentLink2Description: BUY; ComponentLink2URL: https://hr.mouser.com/ProductDetail/Vishay-General-Semiconductor/SB340-E3-54?qs=u91jd7aysvMt27Sml4hAKw%3D%3D; Supplier 1: Mouser; Supplier Part Number 1: 625-SB340-E3/54; Average Rectified Current: 3A; Case/Package: DO-201AD; Forward Current: 3A; Height: 5.8mm; Lead Free: Lead Free; Length: 10mm; Max Operating Temperature: 125°C; Max Repetitive Reverse Voltage (Vrrm): 40V; Max Reverse Leakage Current: 500uA; Max Reverse Voltage (DC): 40V; Max Surge Current: 120A; Min Operating Temperature: -65°C; Mount: Through Hole; Number of Pins: 2; Package Quantity: 1400; Packaging: Tape and Reel; Peak Non-Repetitive Surge Current: 120A; Radiation Hardening: No; REACH SVHC: Unknown; RoHS Compliant: Yes; Series: -; Width: 5.8mm; Supplier Packaging 1: Tape & Reel; Supplier Unit Price 1: $0.46; Supplier Location 1: US
footprint DO-201AD
pins: 1, 2

## Terminal 1x2
designator J?, comment Name: Terminal  (hidden comment: 5mm pitch)
PCB connector, 2-Pin [TH]; Manufacturer: CUI Devices; Manufacturer Part Number: TB006-508-02BE; LatestRevisionDate: 17-Jul-2002; LatestRevisionNote: Re-released for DXP Platform.; Publisher: Altium Limited; ComponentLink1Description: DATASHEET; ComponentLink1URL: https://hr.mouser.com/datasheet/2/670/tb006_508-2306877.pdf; ComponentLink2Description: BUY; ComponentLink2URL: https://hr.mouser.com/ProductDetail/CUI-Devices/TB006-508-02BE?qs=vLWxofP3U2wEdOVV%2FaT04w%3D%3D; Supplier 1: Mouser; Supplier Part Number 1: 490-TB006-508-02BE; Supplier Unit Price 1: $0.85; Supplier Location 1: US
footprint TERMINAL_90_5MM
pins: 1, 2